# Altium schematic symbol library Gravix-Switches.SchLib: 1 symbol
Pins are listed as number, name and electrical type; pins without a type are passive.

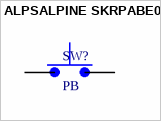
[diagram p0: symbol ALPSALPINE SKRPABE010]

## ALPSALPINE SKRPABE010
designator SW?, comment PB
Tactile Switch SPST 2.5mm 4.2mm x 3.2mm Surface Mount; Manufacturer: ALPSALPINE; Manufacturer Part Number: SKRPABE010; LCSC Part Number: C115360; Package: SMD-4P,4.2x3.2mm; ComponentLink1Description: Digikey Link; ComponentLink2Description: LCSC Link; ComponentLink2URL: https://www.lcsc.com/product-detail/C115360.html?s_z=n_C115360; Mounting Type: SMD
footprint ALPSALPINE SKRPABE010
pins: 1, 2 1, 3 2, 4 2